# Altium footprint library PCB11.PcbLib: 38 footprints (part 1 of 3)
Each footprint in its own frame and in the unit in brackets; x right, y up, seen from the top. Pads: shape width x height; smd on the part's side, far side on the other; paste and mask are expansions set on the pad; w line width, h text height; cw(c..) or ccw(c..) is an arc to the next point about the centre after c.
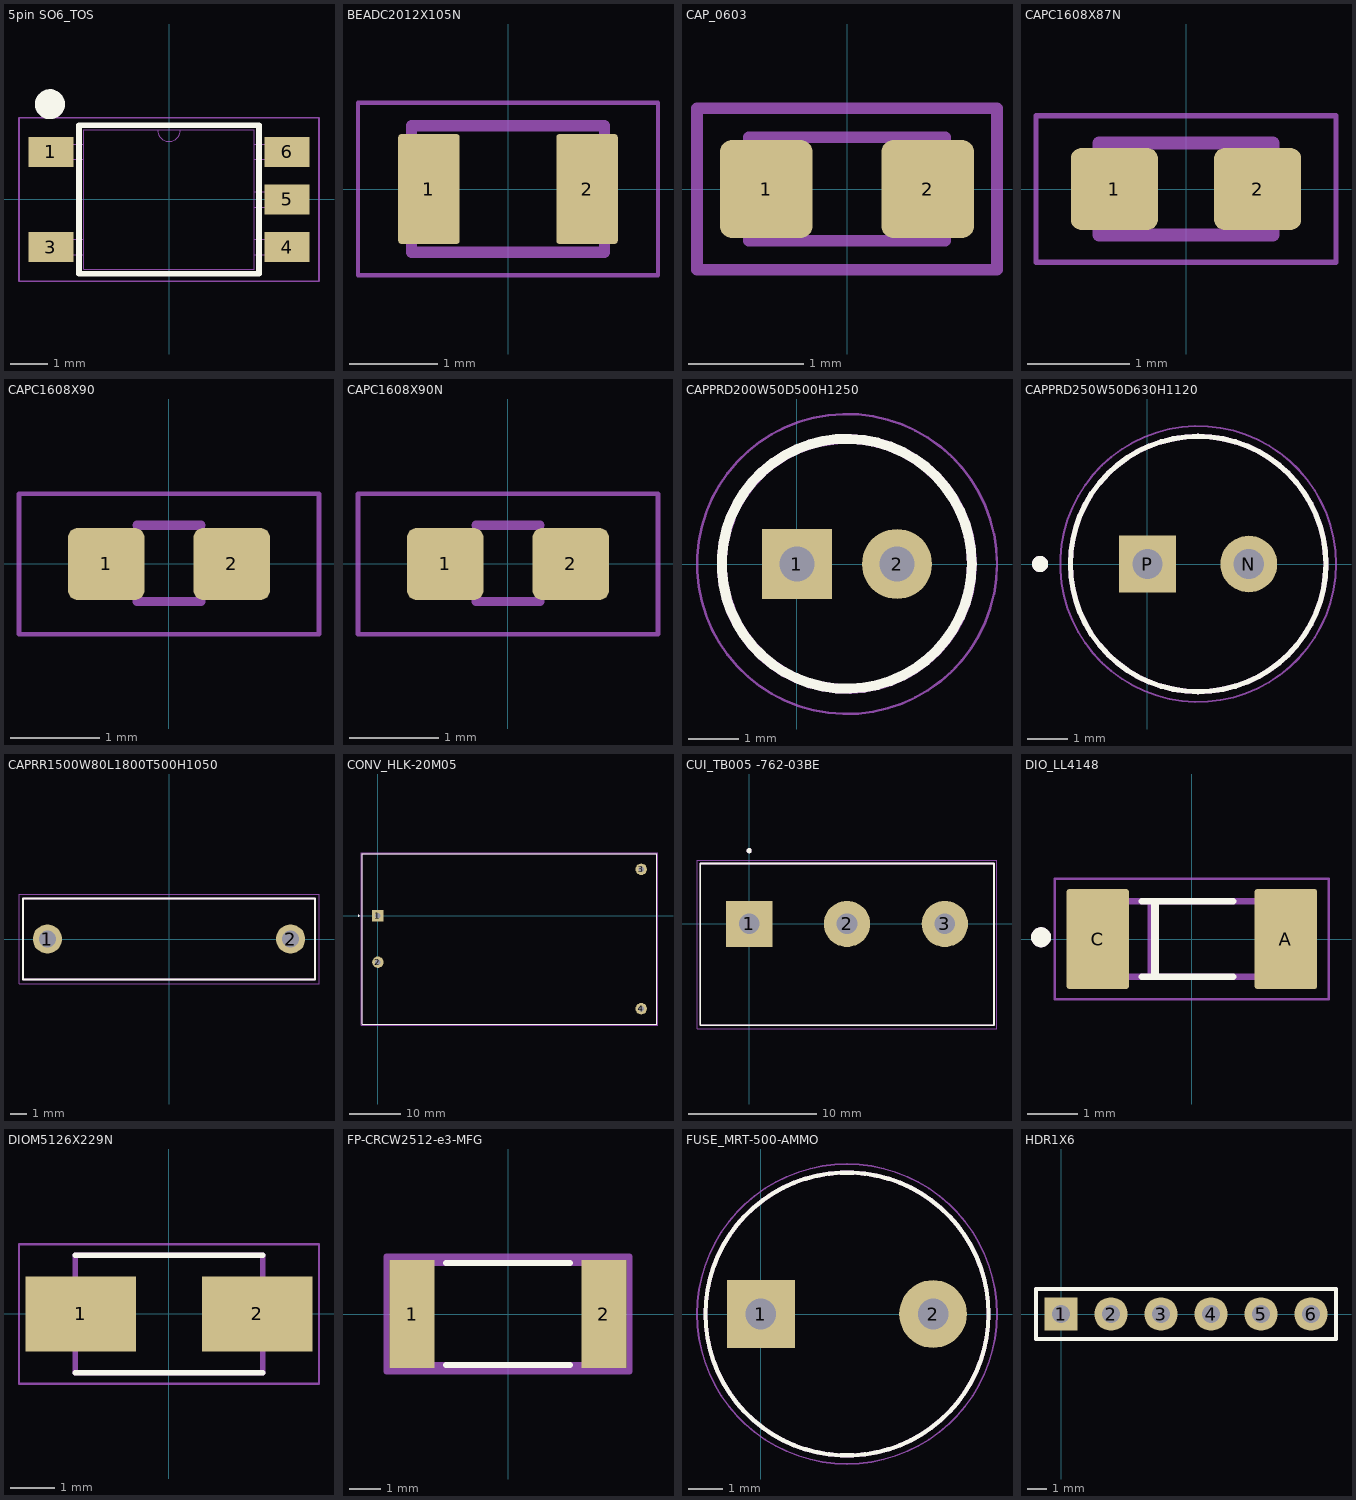
[diagram p0: the footprints below, top view; thin cyan lines are the x and y axes]

## 5pin SO6_TOS [mm]
height 2.2
pads (5):
  rect 1.2x0.8 smd paste+0 mask+0.076: 1(-3.15,1.27) 3(-3.15,-1.27) 4(3.15,-1.27) 5(3.15,0) 6(3.15,1.27)
Top Overlay:
  circle w0.4: c-3.175,2.54 r0.2
  lines w0.15: -2.4,-1.981 2.4,-1.981 2.4,1.981 -2.4,1.981 -2.4,-1.981
Top Component Outline:
  lines w0: -0.305,1.854 ccw(c0,1.854) 0.305,1.854
  lines w0.025: -3.696,-1.473 -3.696,-1.067 -2.273,-1.067 -2.273,-1.473 -3.696,-1.473 ; -3.696,1.067 -3.696,1.473 -2.273,1.473 -2.273,1.067 -3.696,1.067 ; -2.273,-1.854 2.273,-1.854 2.273,1.854 -2.273,1.854 -2.273,-1.854 ; 2.273,-1.473 2.273,-1.067 3.696,-1.067 3.696,-1.473 2.273,-1.473 ; 2.273,-0.203 2.273,0.203 3.696,0.203 3.696,-0.203 2.273,-0.203 ; 2.273,1.067 2.273,1.473 3.696,1.473 3.696,1.067 2.273,1.067
  text "*" at -2.006,0.823 h0.64
Top Courtyard (Mech15):
  lines w0.05: -4,-2.181 -4,2.181 4,2.181 4,-2.181 -4,-2.181
Top Designator (Mech17):
  text ".Designator" at -2.418,2.703 h1.52
3D body "5pin SO6.step": height 2.2, standoff 0, extent -3.5,-1.85 3.5,1.85

## BEADC2012X105N [mm]
height 1.45
pads (2):
  rrect10% 0.7x1.25 smd mask+0.076: 1(-0.9,0) 2(0.9,0)
Top Component Outline:
  lines w0.127: -1,-0.72 1,-0.72 ; -1,0.72 1,0.72 ; -1.1,-0.72 -1.1,0.72 ; -1.1,-0.72 -1.1,0.72 ; -1.1,-0.72 1.1,-0.72 ; -1.1,0.72 1.1,0.72 ; 1.1,-0.72 1.1,0.72 ; 1.1,-0.72 1.1,0.72
Top Courtyard (Mech15):
  lines w0.05: -1.708,-0.983 -1.708,0.983 1.708,0.983 1.708,-0.983 -1.708,-0.983
Top Designator (Mech17):
  text ".Designator" at -3.216,1.395 h1.52
3D body "step_temp.STEP": height 1.05, standoff 0, extent -1,-0.625 1,0.625

## CAP_0603 [mm]
height 0.9
pads (2):
  rrect25% 0.8x0.85 smd mask+0.076: 1(-0.7,0) 2(0.7,0)
Top Component Outline:
  lines w0.1: -0.85,-0.45 -0.85,0.45 0.85,0.45 0.85,-0.45 -0.85,-0.45
Top Courtyard (Mech15):
  lines w0.1: -1.3,-0.7 -1.3,0.7 1.3,0.7 1.3,-0.7 -1.3,-0.7
Top Designator (Mech17):
  text ".Designator" at -3.627,1.19 h1.52
3D body "User Library-SMD CAPACITOR.SLDPRT": height 0.78, standoff -0.02, extent -0.8,-0.4 0.8,0.4

## CAPC1608X87N [mm]
height 0.87
pads (2):
  rrect25% 0.85x0.8 smd mask+0.076: 1(-0.7,0) 2(0.7,0)
Top Component Outline:
  lines w0.127: -0.85,-0.45 -0.85,0.45 0.85,0.45 0.85,-0.45 -0.85,-0.45
Top Courtyard (Mech15):
  lines w0.05: -1.465,-0.715 -1.465,0.715 1.465,0.715 1.465,-0.715 -1.465,-0.715
Top Designator (Mech17):
  text ".Designator" at -3.566,1.251 h1.52
3D body "step_temp.STEP": height 0.9, standoff 0, extent -0.857,-0.41 0.743,0.39

## CAPC1608X90 [mm]
height 0.9
pads (2):
  rrect25% 0.85x0.8 smd mask+0.076: 1(-0.7,0) 2(0.7,0)
Top Component Outline:
  lines w0.102: -0.356,-0.419 0.356,-0.419 ; -0.356,0.432 0.356,0.432
Top Courtyard (Mech15):
  lines w0.051: -1.673,-0.783 1.673,-0.783 1.673,0.783 -1.673,0.783 -1.673,-0.783
Top Designator (Mech17):
  text ".Designator" at -3.434,1.207 h1.52
3D body "step_temp.STEP": height 0.9, standoff 0, extent -0.8,-0.4 0.8,0.4

## CAPC1608X90N [mm]
height 0.9
pads (2):
  rrect25% 0.85x0.8 smd mask+0.076: 1(-0.7,0) 2(0.7,0)
Top Component Outline:
  lines w0.102: -0.356,-0.419 0.356,-0.419 ; -0.356,0.432 0.356,0.432
Top Courtyard (Mech15):
  lines w0.051: -1.673,-0.783 -1.673,0.783 1.673,0.783 1.673,-0.783 -1.673,-0.783
Top Designator (Mech17):
  text ".Designator" at -3.434,1.207 h1.52
3D body "step_temp.STEP": height 0.9, standoff 0, extent -0.8,-0.4 0.8,0.4

## CAPPRD200W50D500H1250 [mm]
height 12.5
pads (2):
  rect 1.4x1.4 hole 0.7: 1(0,0)
  round 1.4 hole 0.7: 2(2,0)
Top Overlay:
  circle w0.2: c0.995,0.004 r2.5
Top Component Outline:
  circle w0.1: c1,0 r2.5
  circle w0.2: c1,0 r2.5
Top Courtyard (Mech15):
  circle w0.05: c1,0 r3
Top Designator (Mech17):
  text ".Designator" at -2.642,3.586 h1.52
3D body "ESH475M050AC3AA.stp": height 12.51, standoff -20, extent -1.75,-2.75 3.75,2.75

## CAPPRD250W50D630H1120 [mm]
height 12.2
pads (2):
  round 1.4 hole 0.75: N(2.5,0)
  rect 1.4x1.4 hole 0.75: P(0,0)
Top Overlay:
  circle w0.127: c1.25,0 r3.15
  circle w0.2: c-2.65,0 r0.1
Top Component Outline:
  circle w0.127: c1.25,0 r3.15
  circle w0.2: c-2.65,0 r0.1
  circle w0.127: c1.25,0 r3.15
Top Courtyard (Mech15):
  circle w0.05: c1.25,0 r3.4
Top Designator (Mech17):
  text ".Designator" at -2.335,3.86 h1.52
3D body "step_temp.STEP": height 11.2, standoff -17, extent -1.9,-3.149 4.4,3.149

## CAPRR1500W80L1800T500H1050 [mm]
pads (2):
  round 1.8 hole 1.05: 1(-7.5,0) 2(7.5,0)
Top Overlay:
  lines w0.127: -9,-2.5 -9,2.5 9,2.5 9,-2.5 -9,-2.5
Top Component Outline:
  lines w0.127: -9,-2.5 9,-2.5 9,2.5 -9,2.5 -9,-2.5
Top Courtyard (Mech15):
  lines w0.05: -9.25,-2.75 9.25,-2.75 9.25,2.75 -9.25,2.75 -9.25,-2.75

## CONV_HLK-20M05 [mm]
height 21.8
pads (4):
  rect 2.2x2.2 hole 1.1: 1(0,0)
  round 2.2 hole 1.1: 2(0,-9) 3(51,9) 4(51,-18)
Top Overlay:
  circle w0.2: c-3.75,0 r0.1
  lines w0.127: -3,-21 54,-21 54,12 -3,12 -3,-21
Top Component Outline:
  circle w0.2: c-3.75,0 r0.1
  lines w0.127: -3,-21 -3,12 ; -3,-21 54,-21 ; -3,-21 54,-21 ; -3,-21 -3,12 ; -3,12 54,12 ; -3,12 54,12 ; 54,-21 54,12 ; 54,-21 54,12
Top Courtyard (Mech15):
  lines w0.05: -3.25,-21.25 54.25,-21.25 54.25,12.25 -3.25,12.25 -3.25,-21.25
Top Designator (Mech17):
  text ".Designator" at 21.526,12.813 h1.52
3D body "step_temp.STEP": height 22.5, standoff -5, extent -3,-21 54,12

## CUI_TB005 -762-03BE [mm]
height 21.7
pads (3):
  rect 3.6x3.6 hole 1.6: 1(0,0)
  round 3.6 hole 1.6: 2(7.62,0) 3(15.24,0)
Top Overlay:
  circle w0.2: c0,5.7 r0.1
  lines w0.127: -3.794,-7.9 19.066,-7.9 19.066,4.7 -3.794,4.7 -3.794,-7.9
Top Component Outline:
  circle w0.2: c0,5.7 r0.1
  lines w0.127: -3.81,-7.9 19.05,-7.9 ; -3.81,-7.9 -3.81,4.7 ; -3.81,-7.9 19.05,-7.9 ; -3.81,-7.9 -3.81,4.7 ; -3.81,4.7 19.05,4.7 ; -3.81,4.7 19.05,4.7 ; 19.05,-7.9 19.05,4.7 ; 19.05,-7.9 19.05,4.7
Top Courtyard (Mech15):
  lines w0.05: -4.06,-8.15 -4.06,4.95 19.3,4.95 19.3,-8.15 -4.06,-8.15
Top Designator (Mech17):
  text ".Designator" at 4.121,5.34 h1.52

## DIO_LL4148 [mm]
height 1.6
pads (2):
  rrect10% 1.25x2 smd mask+0.076: A(1.875,0) C(-1.875,0)
Top Overlay:
  circle w0.2: c-3.006,0.035 r0.1
  lines w0.127: -1,-0.75 0.83,-0.75 ; -1,0.75 0.83,0.75
  lines w0.152: -0.734,-0.735 -0.734,0.725
Top Component Outline:
  circle w0.2: c-3.006,0.035 r0.1
  lines w0.127: -0.82,-0.75 -0.82,0.75 ; -0.72,-0.75 -0.72,0.75 ; -1.82,-0.75 1.82,-0.75 1.82,0.75 -1.82,0.75 -1.82,-0.75
Top Courtyard (Mech15):
  lines w0.05: -2.73,-1.2 -2.73,1.2 2.73,1.2 2.73,-1.2 -2.73,-1.2
Top Designator (Mech17):
  text ".Designator" at -3.556,1.481 h1.52
3D body "step_temp.STEP": height 1.5, standoff 0, extent -1.725,-0.75 1.725,0.75

## DIOM5126X229N [mm]
height 2.4
pads (2):
  rect 2.5x1.7 smd mask+0.076: 1(-2,0) 2(2,0)
Top Overlay:
  lines w0.127: -2.123,-1.332 2.123,-1.332 ; -2.123,1.332 2.123,1.332
Top Component Outline:
  lines w0.127: -2.123,-1.332 -2.123,1.332 2.123,1.332 2.123,-1.332 -2.123,-1.332
Top Courtyard (Mech15):
  lines w0.05: -3.4,-1.582 -3.4,1.582 3.4,1.582 3.4,-1.582 -3.4,-1.582
Top Designator (Mech17):
  text ".Designator" at -3.489,2.04 h1.52

## FP-CRCW2512-e3-MFG [mm]
height 0.65
pads (2):
  rect 1.45x3.5 smd paste+0 mask+0.076: 1(-3.1,0) 2(3.1,0)
Top Overlay:
  lines w0.2: -2,-1.65 2,-1.65 ; -2,1.65 2,1.65
Top Assembly:
  lines w0.2: -3.925,-1.85 -3.925,1.85 3.925,1.85 3.925,-1.85 -3.925,-1.85
Top Component Outline:
  lines w0.2: -3.25,-1.65 -3.25,1.65 3.25,1.65 3.25,-1.65 -3.25,-1.65
Top Courtyard (Mech15):
  lines w0.2: -3.925,-1.85 -3.925,1.85 3.925,1.85 3.925,-1.85 -3.925,-1.85
Top Designator (Mech17):
  text ".Designator" at -3.607,2.38 h1.52
3D body "Res_Vishay_CRCW25121K80FKEG_eec.STEP": height 0.25, standoff 0, extent -3.925,-1.85 3.925,1.85

## FUSE_MRT-500-AMMO [mm]
height 7.9
pads (2):
  rect 2x2 hole 0.9: 1(0,0)
  round 2 hole 0.9: 2(5.08,0)
Top Overlay:
  circle w0.127: c2.54,0 r4.175
Top Component Outline:
  circle w0.127: c2.54,0 r4.175
  circle w0.127: c2.54,0 r4.175
Top Courtyard (Mech15):
  circle w0.05: c2.54,0 r4.425
Top Designator (Mech17):
  text ".Designator" at -0.719,4.835 h1.52

## HDR1X6 [mm] "Connector; Header; 6 Position"
pads (6):
  rect 1.7x1.7 hole 0.9 mask+0.076: 1(0,0)
  round 1.7 hole 0.9 mask+0.076: 2(2.54,0) 3(5.08,0) 4(7.62,0) 5(10.16,0) 6(12.7,0)
Top Overlay:
  lines w0.2: -1.27,-1.27 13.97,-1.27 13.97,1.27 -1.27,1.27 -1.27,-1.27
Top Component Outline:
  lines w0.2: -1.27,-1.27 13.97,-1.27 13.97,1.27 -1.27,1.27 -1.27,-1.27
Top Courtyard (Mech15):
  lines w0.2: -1.27,-1.27 13.97,-1.27 13.97,1.27 -1.27,1.27 -1.27,-1.27
Top Designator (Mech17):
  text ".Designator" at 2.846,1.842 h1.52